# Altium schematic symbol library MAX5523EUA+.SchLib: 1 symbol
Pins are listed as number, name and electrical type; pins without a type are passive.

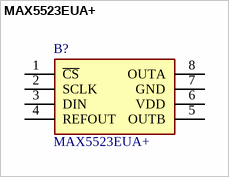
[diagram p0: symbol MAX5523EUA+]

## MAX5523EUA+
designator B?
Maxim MAX5523EUA+, 2-channel 10 bit Serial DAC, 8-Pin uMAX U8CN+1; Manufacturer_Name: Analog Devices; Geometry.Height: 1.1mm; Manufacturer_Part_Number: MAX5523EUA+; Mouser Part Number: 700-MAX5523EUA; Mouser Price/Stock: https://www.mouser.co.uk/ProductDetail/Analog-Devices-Maxim-Integrated/MAX5523EUA%2b?qs=9Cj2FLRihcNj5G7tv6WL1A%3D%3D; Arrow Part Number: *; Arrow Price/Stock: *; Datasheet Link: https://pdfserv.maximintegrated.com/en/ds/MAX5522-MAX5525.pdf
footprint SOP65P490X110-8N
pins: 1 ~{CS}, 2 SCLK, 3 DIN, 4 REFOUT, 5 OUTB, 6 VDD, 7 GND, 8 OUTA